# Altium schematic symbol library GBOX_V2.SCHLIB: 34 symbols
Pins are listed as number, name and electrical type; pins without a type are passive.

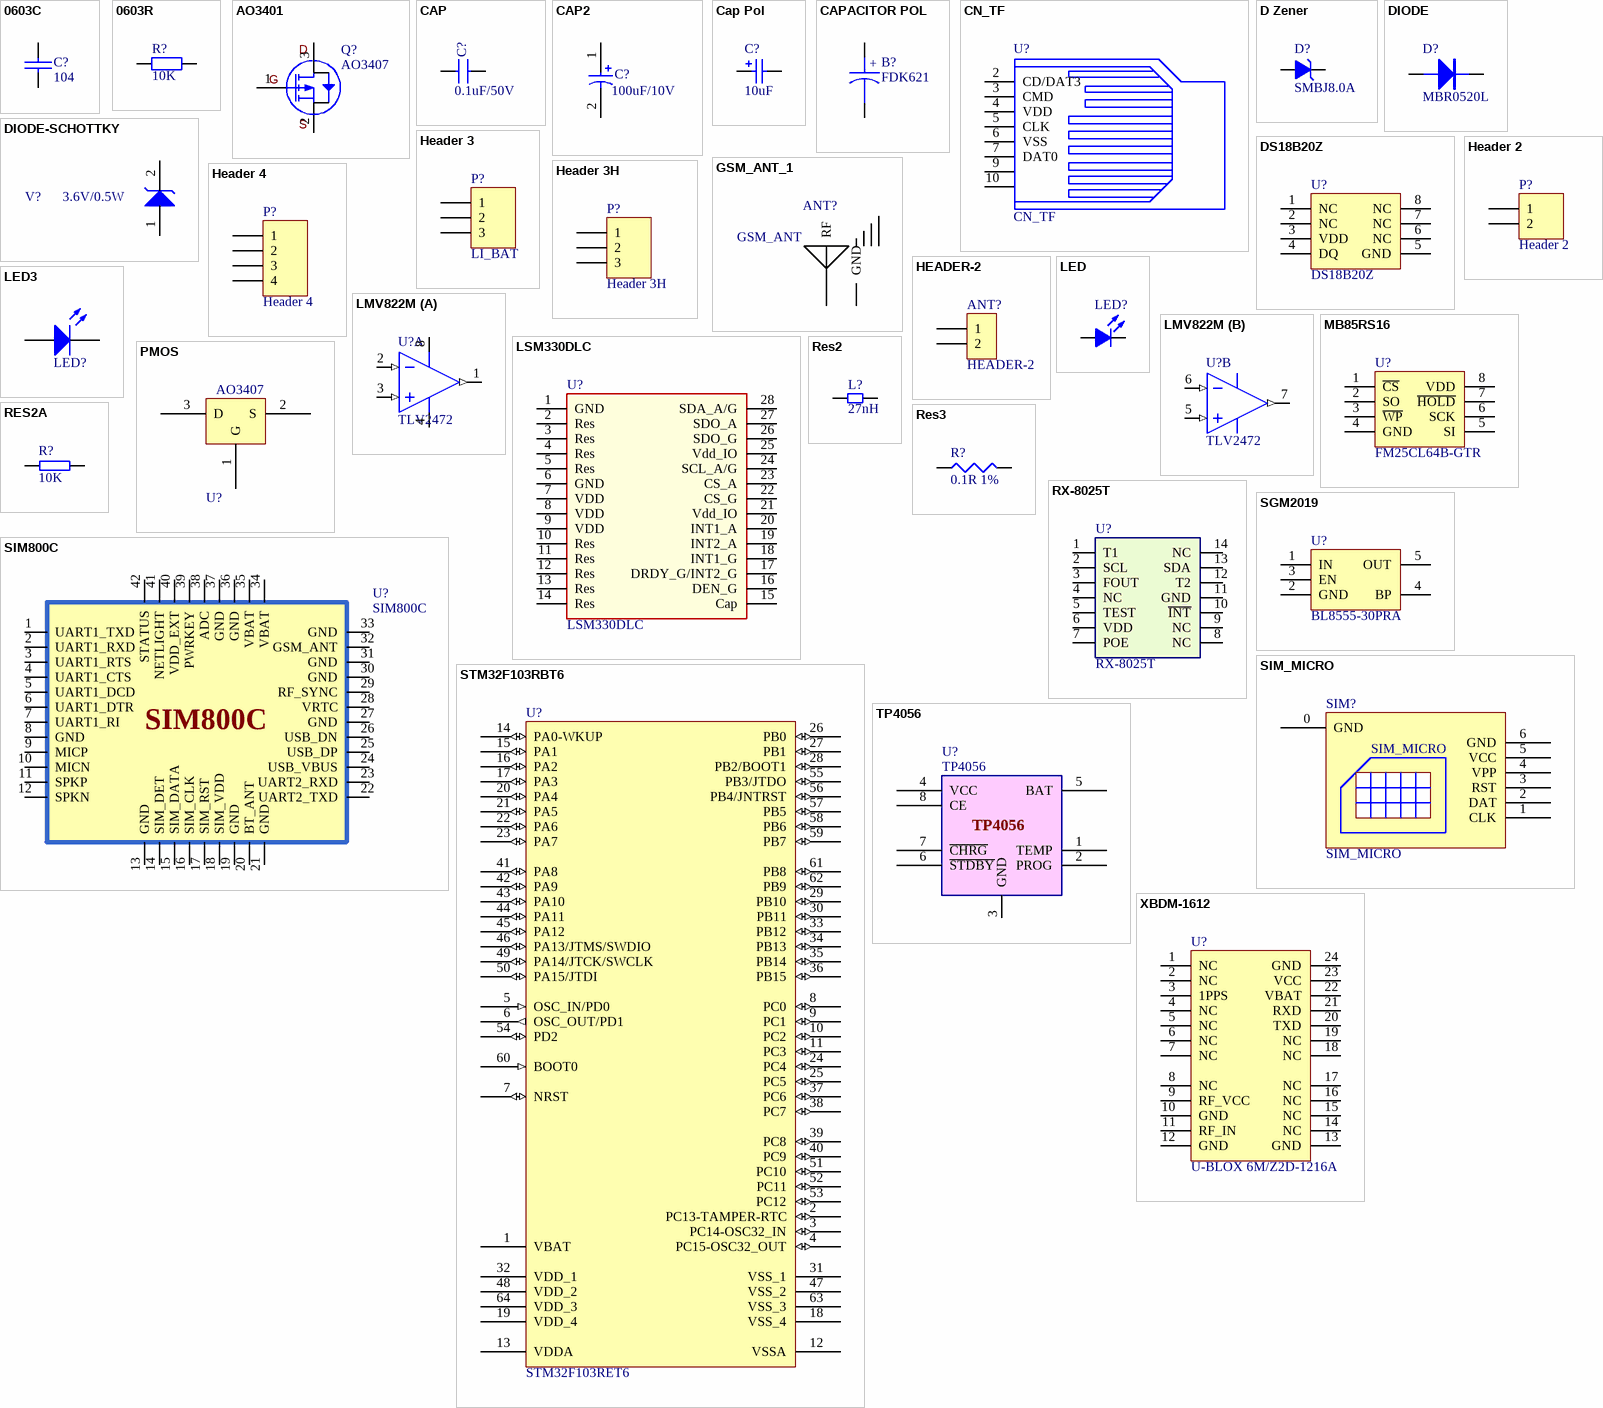
[diagram p0: symbols 0603C to XBDM-1612]

## 0603C
designator C?, comment 104
footprint 0603C
pins: 1, 2

## 0603R
designator R?, comment 10K
footprint 0603R
pins: 1, 2

## AO3401
designator Q?, comment AO3407
P-Channel MOSFET; Published: 8-Jun-2000; LatestRevisionDate: 17-Jul-2002; LatestRevisionNote: Re-released for DXP Platform.; PackageVersion: 1995/1996; PackageReference: E3; Publisher: Altium Limited; PackageDescription: TO, Flat Index; 3 In-Line, Axial Leads; Body Dia. 4.6mm; Lead Dia. 0.5 mm (max)
footprint SOT23
pins: 1 G, 2 S, 3 D

## CAP
designator C?, comment 0.1uF/50V
footprint 0603C
footprint 0603C
footprint 1206C
pins: 1, 2

## CAP2
designator C?, comment 100uF/10V
footprint 0805
footprint CAPTANC
pins: 1, 2

## Cap Pol
designator C?, comment 10uF
Polarized Capacitor (Radial); Published: 8-Jun-2000; LatestRevisionDate: 17-Jul-2002; LatestRevisionNote: Re-released for DXP Platform.; Publisher: Altium Limited; Value: 10uF
footprint CAPTANC
footprint CAP-50V4.7uF
footprint TA-B (3.5mm*2.8mm)
footprint TA-E (7.3mm*4.3mm)
footprint CAP-25V100uF (C-16V100uF)
footprint CAP-16V1000uF (直径10mm，脚间距约5.08mm)
footprint CAP-50V10uF
footprint CAP-50V100uF (Capacitor, Electrolytic, Radial; Body 8 x 11.5 mm (Dia.xH typ); Pin Spacing 3.5 mm (typ))
footprint E1000uF
footprint TA-C (6.0mm*3.2mm*2.8mm)
footprint CAP-330mF
footprint HLC - 1520
footprint CAP_D6.3 (D6.3, Height=5.3 or 7.7 mm)
footprint CAP_D10
pins: 1, 2
1 alternate drawing of the same symbol

## CAPACITOR POL
designator B?, comment FDK621
可充电5.5mah6.8x2.1mm3v后备纽扣电池
footprint bat_1
pins: 1, 2
text: +

## CN_TF
designator U?
footprint TF
footprint TF
pins: 2 CD/DAT3, 3 CMD, 4 VDD, 5 CLK, 6 VSS, 7 DAT0, 9, 10
2 alternate drawings of the same symbol

## D Zener
designator D?, comment SMBJ8.0A
Zener Diode; Published: 8-Jun-2000; LatestRevisionDate: 17-Jul-2002; LatestRevisionNote: Re-released for DXP Platform.; Publisher: Altium Limited
simulation model ZENER (Diode)
signal-integrity model D Zener
footprint DO-214AA
footprint DIODE-08
footprint DIODE-10
footprint CD3216-1206 (Chip Diode; Body 3.2 x 1.6 mm (LxW typ))
footprint D1812
pins: 1 A, 2 K

## DIODE
designator D?, comment MBR0520L
Diode
footprint 1206D (1206-Diode)
footprint 1210D
footprint 1812D
pins: 1 A, 2 K

## DIODE-SCHOTTKY
designator V?, comment 3.6V/0.5W
DIODE SCHOTTKY
footprint 1206D
pins: 1, 2

## DS18B20Z
designator U?
footprint SOP8 (Footprint not found)
pins: 1 NC, 2 NC, 3 VDD, 4 DQ, 5 GND, 6 NC, 7 NC, 8 NC

## GSM_ANT_1
designator ANT?, comment GSM_ANT
passive_antenna
footprint IPEX
pins: 1 GND, 2 RF

## Header 2
designator P?
Header, 2-Pin; LatestRevisionDate: 17-Jul-2002; LatestRevisionNote: Re-released for DXP Platform.; Publisher: Altium Limited
footprint HEADER_2WAY_2.54MM
signal-integrity model Connector
pins: 1, 2

## Header 3
designator P?, comment LI_BAT
Header, 3-Pin; LatestRevisionDate: 17-Jul-2002; LatestRevisionNote: Re-released for DXP Platform.; Publisher: Altium Limited
footprint HDR1X3_1.25mm
signal-integrity model Connector
pins: 1, 2, 3

## Header 3H
designator P?
Header, 3-Pin, Right Angle; LatestRevisionDate: 17-Jul-2002; LatestRevisionNote: Re-released for DXP Platform.; Publisher: Altium Limited
footprint HDR1X3 (Connector; Header; 3 Position)
signal-integrity model Connector
pins: 1, 2, 3

## Header 4
designator P?
Header, 4-Pin; LatestRevisionDate: 17-Jul-2002; LatestRevisionNote: Re-released for DXP Platform.; Publisher: Altium Limited
footprint HDR1X4 (Connector; Header; 4 Position)
signal-integrity model Connector
pins: 1, 2, 3, 4

## HEADER-2
designator ANT?
footprint IPEX
pins: 1, 2

## LED
designator LED?  (value not drawn)
Typical INFRARED GaAs LED; Published: 8-Jun-2000; LatestRevisionDate: 17-Jul-2002; LatestRevisionNote: Re-released for DXP Platform.; Publisher: Altium Limited
simulation model LED0 (Diode)
footprint LED-2P_Beta
footprint LED-0805
footprint LED-0603
pins: 1 A, 2 K

## LED3
designator LED?, comment YLED  (value not drawn)
BLUE LED; Published: 8-Jun-2000; LatestRevisionDate: 17-Dec-2003; LatestRevisionNote: PCB Footprint replaced.; DatasheetDocument: 16-Apr-2002; PackageDocument: 16-Apr-2002; PackageReference: 3.5X2.8X1.9; Publisher: Altium Limited
footprint LED-0603
pins: 1 A, 2 K
2 alternate drawings of the same symbol

## LMV822M
designator U?, comment TLV2472
Fast Settling Dual Operational Amplifier
footprint SOP8
part A pins: 1 OUT1 (out), 2 IN1- (in), 3 IN1+ (in), 4 V- (power), 8 V+ (power)
part B pins: 5 IN2+ (in), 6 IN2- (in), 7 OUT2 (out)

## LSM330DLC
designator U?
footprint LGA_28 (LSM330DLC)
pins: 1 GND, 2 Res, 3 Res, 4 Res, 5 Res, 6 GND, 7 VDD, 8 VDD, 9 VDD, 10 Res, 11 Res, 12 Res, 13 Res, 14 Res, 15 Cap, 16 DEN_G, 17 DRDY_G/INT2_G, 18 INT1_G, 19 INT2_A, 20 INT1_A, 21 Vdd_IO, 22 CS_G, 23 CS_A, 24 SCL_A/G, 25 Vdd_IO, 26 SDO_G, 27 SDO_A, 28 SDA_A/G

## MB85RS16
designator U?, comment FM25CL64B-GTR
2K FRAM Memory
footprint SOP8
pins: 1 ~{CS}, 2 SO, 3 ~{WP}, 4 GND, 5 SI, 6 SCK, 7 ~{HOLD}, 8 VDD

## PMOS
designator U?, comment AO3407
footprint TO-236AB
footprint SOT23
pins: 1 G, 2 S, 3 D

## Res2
designator L?, comment 27nH
Resistor; Value: 1K; Published: 8-Jun-2000; LatestRevisionDate: 17-Jul-2002; LatestRevisionNote: Re-released for DXP Platform.; Publisher: Altium Limited
simulation model RESISTOR (Resistor)
footprint R2012-0805 (Chip Resistor; Body 2.0 x 1.3 mm (LxW typ))
footprint RES10.35-6.8X2.8 (Resistor, Axial; Body 6.8 x 2.8 mm (LxDia. max), Lead Dia. 0.65 mm (max))
footprint Res0.2 (PTC)
footprint RAxial 0.8
footprint 0603 (Chip Capacitor; Body 1.6 x 0.8 mm (LxW typ))
footprint 0805 (Chip Capacitor; Body 2.0 x 1.3 mm (LxW typ))
footprint 0402 (Chip Capacitor, Body 1.0x0.5mm, IPC High Density)
footprint N0603
footprint 1206 (Chip Inductor, Body 3.2x1.6mm, IPC High Density)
footprint 0603R (Footprint not found)
pins: 1, 2

## RES2A
designator R?, comment 10K
footprint 0603R
pins: 1, 2

## Res3
designator R?, comment 0.1R 1%
Resistor; Value: 1K; Published: 8-Jun-2000; LatestRevisionDate: 04-Mar-2005; LatestRevisionNote: PCB Footprint replaced.; PackageReference: J1-0603; Publisher: Altium Limited
footprint J1-0603
footprint 3225[1210]
footprint 5025[2010]
footprint 6332[2512]
footprint 2010R
pins: 1, 2
2 alternate drawings of the same symbol

## RX-8025T
designator U?
footprint SOP14
pins: 1 T1, 2 SCL, 3 FOUT, 4 NC, 5 TEST, 6 VDD, 7 POE, 8 NC, 9 NC, 10 ~{INT}, 11 GND, 12 T2, 13 SDA, 14 NC

## SGM2019
designator U?, comment BL8555-30PRA
footprint SOT23-5
pins: 1 IN, 2 GND, 3 EN, 4 BP, 5 OUT

## SIM800C
designator U?
footprint SIM800C (LCC, 42-Pins, Body 19.0x21.0mm (max), Pitch 1.10mm, IPC Medium Density)
pins: 1 UART1_TXD, 2 UART1_RXD, 3 UART1_RTS, 4 UART1_CTS, 5 UART1_DCD, 6 UART1_DTR, 7 UART1_RI, 8 GND, 9 MICP, 10 MICN, 11 SPKP, 12 SPKN, 13 GND, 14 SIM_DET, 15 SIM_DATA, 16 SIM_CLK, 17 SIM_RST, 18 SIM_VDD, 19 GND, 20 BT_ANT, 21 GND, 22 UART2_TXD, 23 UART2_RXD, 24 USB_VBUS, 25 USB_DP, 26 USB_DN, 27 GND, 28 VRTC, 29 RF_SYNC, 30 GND, 31 GND, 32 GSM_ANT, 33 GND, 34 VBAT, 35 VBAT, 36 GND, 37 GND, 38 ADC, 39 PWRKEY, 40 VDD_EXT, 41 NETLIGHT, 42 STATUS

## SIM_MICRO
designator SIM?
footprint SIM_MICRO
pins: 0 GND, 1 CLK, 2 DAT, 3 RST, 4 VPP, 5 VCC, 6 GND

## STM32F103RBT6
designator U?, comment STM32F103RET6
STM32 ARM-based 32-bit MCU with 128 Kbytes Flash, 64-pin LQFP, Industrial Temperature; Published: *; DatasheetVersion: *; PackageVersion: *; PackageReference: *; Publisher: *; PackageDescription: *; ComponentLink1Description: *; ComponentLink1URL: *; ComponentLink2Description: *; ComponentLink2URL: *
footprint LQFP64_N
footprint LQFP64_L
footprint LQFP64_M
pins: 1 VBAT (power), 2 PC13-TAMPER-RTC (io), 3 PC14-OSC32_IN (io), 4 PC15-OSC32_OUT (io), 5 OSC_IN/PD0 (in), 6 OSC_OUT/PD1 (out), 7 NRST (io), 8 PC0 (io), 9 PC1 (io), 10 PC2 (io), 11 PC3 (io), 12 VSSA (power), 13 VDDA (power), 14 PA0-WKUP (io), 15 PA1 (io), 16 PA2 (io), 17 PA3 (io), 18 VSS_4 (power), 19 VDD_4 (power), 20 PA4 (io), 21 PA5 (io), 22 PA6 (io), 23 PA7 (io), 24 PC4 (io), 25 PC5 (io), 26 PB0 (io), 27 PB1 (io), 28 PB2/BOOT1 (io), 29 PB10 (io), 30 PB11 (io), 31 VSS_1 (power), 32 VDD_1 (power), 33 PB12 (io), 34 PB13 (io), 35 PB14 (io), 36 PB15 (io), 37 PC6 (io), 38 PC7 (io), 39 PC8 (io), 40 PC9 (io), 41 PA8 (io), 42 PA9 (io), 43 PA10 (io), 44 PA11 (io), 45 PA12 (io), 46 PA13/JTMS/SWDIO (io), 47 VSS_2 (power), 48 VDD_2 (power), 49 PA14/JTCK/SWCLK (io), 50 PA15/JTDI (io), 51 PC10 (io), 52 PC11 (io), 53 PC12 (io), 54 PD2 (io), 55 PB3/JTDO (io), 56 PB4/JNTRST (io), 57 PB5 (io), 58 PB6 (io), 59 PB7 (io), 60 BOOT0 (in), 61 PB8 (io), 62 PB9 (io), 63 VSS_3 (power), 64 VDD_3 (power)
2 alternate drawings of the same symbol

## TP4056
designator U?
footprint SOT-23-5
footprint TP4056
pins: 1 TEMP, 2 PROG, 3 GND, 4 VCC, 5 BAT, 6 ~{STDBY}, 7 ~{CHRG}, 8 CE
2 alternate drawings of the same symbol

## XBDM-1612
designator U?, comment U-BLOX 6M/Z2D-1216A
footprint G_UBLOXNEO5
pins: 1 NC, 2 NC, 3 1PPS, 4 NC, 5 NC, 6 NC, 7 NC, 8 NC, 9 RF_VCC, 10 GND, 11 RF_IN, 12 GND, 13 GND, 14 NC, 15 NC, 16 NC, 17 NC, 18 NC, 19 NC, 20 TXD, 21 RXD, 22 VBAT, 23 VCC, 24 GND